# Altium schematic symbol library SCH - BJT - NEXPERIA NPN SOT-23-3.SchLib: 1 symbol
Pins are listed as number, name and electrical type; pins without a type are passive.

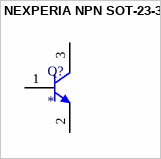
[diagram p0: symbol NEXPERIA NPN SOT-23-3]

## NEXPERIA NPN SOT-23-3
designator Q?
pins: 1 B, 2 E, 3 C